# EAGLE library part 6871XX149022_687106149022 (library 68611414422)
WR-FPC 0.50 mm SMT ZIF Horizontal - Bottom Contact KIND PROPERTIES Pitch 0.5 mm MATERIAL PROPERTIES Insulator Material PA6T Contact Material Phosphor Bronze Contact Plating 120 (µ") Tin over 50 (µ") Nickel Contact Type Stamped Solder Tabs Brass <https://www.we-online.com/catalog/media/o32848v209%20Family_Con_FPC_ZIF_050_6871xx149022.jpg> Details see: https://www.we-online.com/catalog/en/FPC_0_5_SMT_ZIF_HORIZONTAL_BUTTOM_CONTACT_6871XX149022/ Updated by Ella Wu 2020-08-26 2020(C) Wurth Elektronik
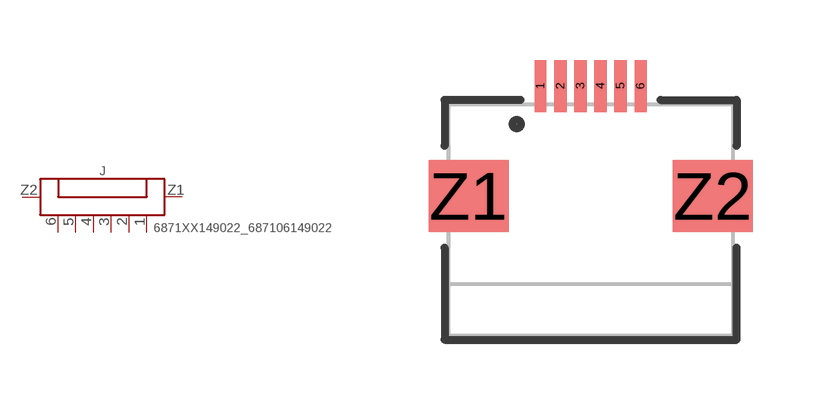
[diagram p70: symbol with the pads of 687106149022; footprint 687106149022]

Designator prefix J

## 6871XX149022_687106149022 (CONTACT-RESISTANCE: 50mOhm; DATASHEET-URL: https://www.we-online.com/catalog/datasheet/687106149022.pdf; IR: 0.5A; L: 7.1mm; PACKAGING: Tape and Reel; PART-NUMBER: 687106149022; PINS: 6; PITCH: 0.5mm; TYPE: Horizontal; VALUE: 687106149022; WORKING-VOLTAGE: 50V(AC))  [687106149022]
1  1  pas
2  2  pas
3  3  pas
4  4  pas
5  5  pas
6  6  pas
Z1  Z1  pas
Z2  Z2  pas

## Footprint 687106149022 (pad centres in mm)
WR-FPC 0.50 mm SMT ZIF Horizontal - Bottom Contact ,6Pins
smd 0.3 x 1.3: 1 -1.25,3.35; 2 -0.75,3.35; 3 -0.25,3.35; 4 0.25,3.35; 5 0.75,3.35; 6 1.25,3.35
smd 2 x 1.8: Z1 -3.05,0.6; Z2 3.05,0.6